# EAGLE library part 253-116/000-004 (library con-wago_253)
Stand: 01.01.2014. Die jeweils aktuellen Daten zu diesem Artikel finden Sie in unserem Produktkatalog, den Sie unter www.wago.com einsehen können. As of: 01/01/2014. Please find the newest data for this article in our product catalogue, which can be viewed under www.wago.com.
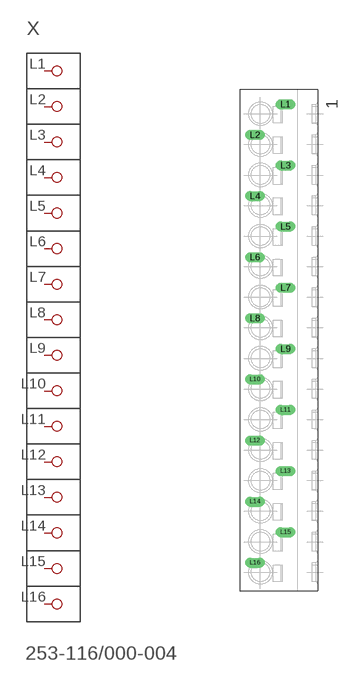
[diagram p32: symbol with the pads of P-253-116; footprint P-253-116]

Designator prefix X

## 253-116/000-004  [P-253-116]
L1  P1
L2  P2
L3  P3
L4  P4
L5  P5
L6  P6
L7  P7
L8  P8
L9  P9
L10  P10
L11  P11
L12  P12
L13  P13
L14  P14
L15  P15
L16  P16

## Footprint P-253-116 (pad centres in mm)
drill 1.1 long: L1 0.683,38.6; L2 -4.316,33.6; L3 0.683,28.6; L4 -4.316,23.6; L5 0.683,18.6; L6 -4.316,13.6; L7 0.683,8.6; L8 -4.316,3.6; L9 0.683,-1.4; L10 -4.316,-6.4; L11 0.683,-11.4; L12 -4.316,-16.4; L13 0.683,-21.4; L14 -4.316,-26.4; L15 0.683,-31.4; L16 -4.316,-36.4